# Altium footprint library RaspberryPiZeroW.PcbLib: 1 footprints
Each footprint in its own frame and in the unit in brackets; x right, y up, seen from the top. Pads: shape width x height; smd on the part's side, far side on the other; paste and mask are expansions set on the pad; w line width, h text height; cw(c..) or ccw(c..) is an arc to the next point about the centre after c.
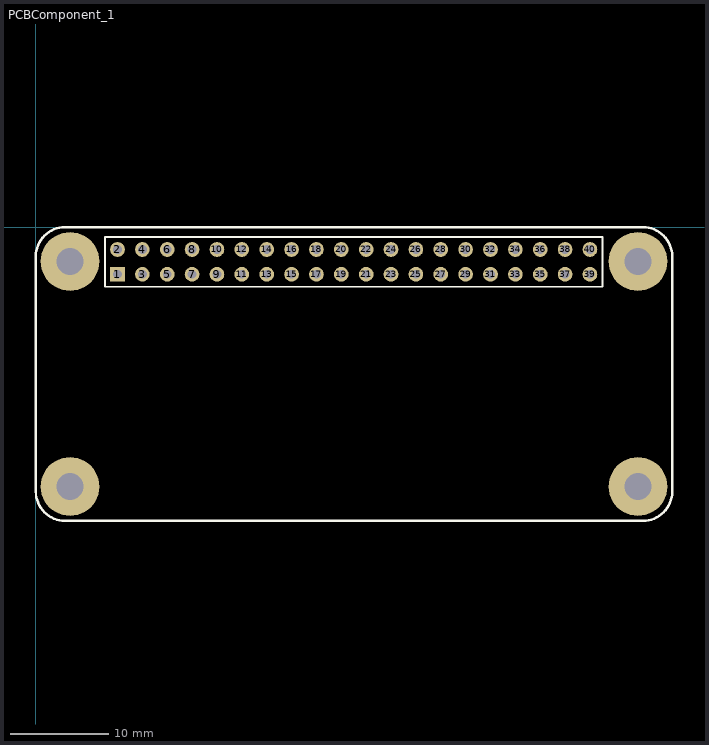
[diagram p0: the footprint, top view; thin cyan lines are the x and y axes]

## PCBComponent_1 [mm]
pads (44):
  rect 1.5x1.5 hole 0.9: 1(8.342,-4.82)
  round 1.5 hole 0.9: 2(8.342,-2.28) 3(10.882,-4.82) 4(10.882,-2.28) 5(13.422,-4.82) 6(13.422,-2.28) 7(15.962,-4.82) 8(15.962,-2.28) 9(18.502,-4.82) 10(18.502,-2.28) 11(21.042,-4.82) 12(21.042,-2.28) 13(23.582,-4.82) 14(23.582,-2.28) 15(26.122,-4.82) 16(26.122,-2.28) 17(28.662,-4.82) 18(28.662,-2.28) 19(31.202,-4.82) 20(31.202,-2.28) 21(33.742,-4.82) 22(33.742,-2.28) 23(36.282,-4.82) 24(36.282,-2.28) 25(38.822,-4.82) 26(38.822,-2.28) 27(41.362,-4.82) 28(41.362,-2.28) 29(43.902,-4.82) 30(43.902,-2.28) 31(46.442,-4.82) 32(46.442,-2.28) 33(48.982,-4.82) 34(48.982,-2.28) 35(51.522,-4.82) 36(51.522,-2.28) 37(54.062,-4.82) 38(54.062,-2.28) 39(56.602,-4.82) 40(56.602,-2.28)
  round 6 hole 2.75: ""(3.5,-26.5) ""(3.5,-3.5) ""(61.5,-26.5) ""(61.5,-3.5)
Top Overlay:
  lines w0.2: 7.072,-6.09 7.072,-1.01 57.872,-1.01 57.872,-6.09 7.072,-6.09
  lines w0.254: 0,-27.006 0,-3 cw(c3,-3) 3,0 62,0 cw(c62,-3) 65,-3 65,-27 cw(c62,-27) 62,-30 3,-30 ; 0.003,-27.006 ccw(c3,-27) 3,-29.997